# EAGLE library part 61400416021 (library circuit_tree)
IC
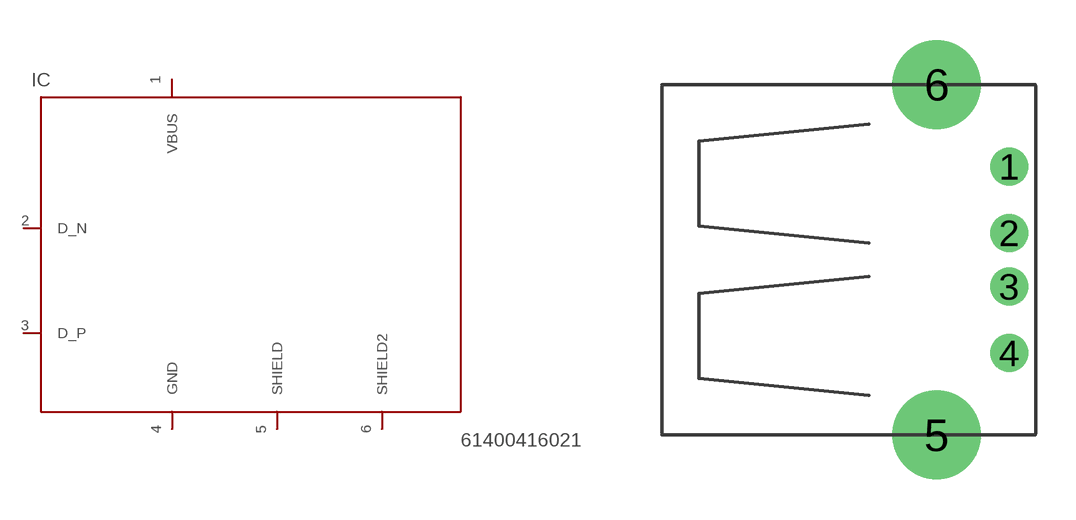
[diagram p1: symbol with the pads of USB-A-H; footprint USB-A-H]

Designator prefix IC

## 61400416021  [USB-A-H]
1  VBUS  pas
2  D_N  pas
3  D_P  pas
4  GND  pas
5  SHIELD  pas
6  SHIELD2  pas

## Footprint USB-A-H (pad centres in mm)
USB Series A Hole Mounted
drill 0.914: 1 2.718,3.493; 2 2.718,1.003; 3 2.718,-1.003; 4 2.718,-3.493
drill 2.311: 5 0,-6.566; 6 0,6.566